# Altium footprint library TO-220.PcbLib: 1 footprints
Each footprint in its own frame and in the unit in brackets; x right, y up, seen from the top. Pads: shape width x height; smd on the part's side, far side on the other; paste and mask are expansions set on the pad; w line width, h text height; cw(c..) or ccw(c..) is an arc to the next point about the centre after c.
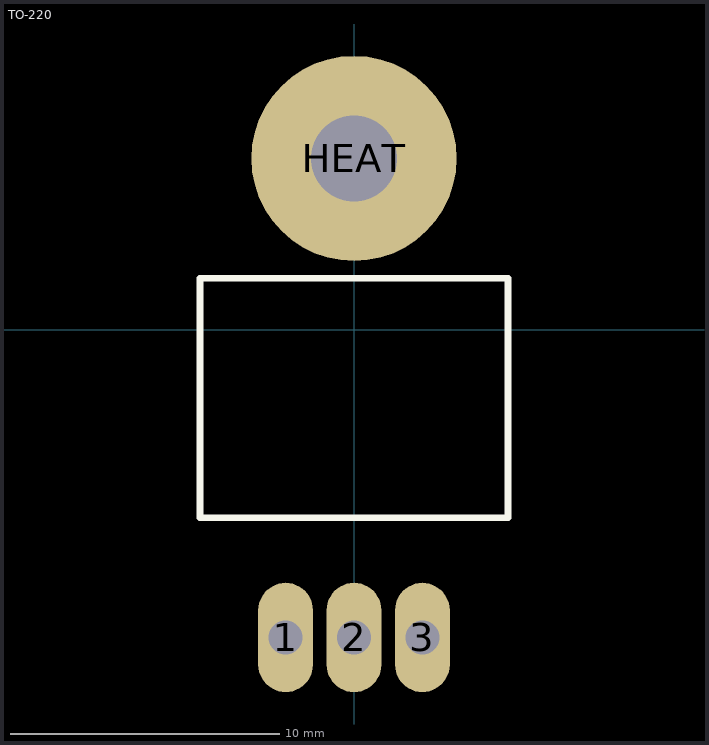
[diagram p0: the footprint, top view; thin cyan lines are the x and y axes]

## TO-220 [mil]
pads (4):
  oval 80x160 hole 50: 1(-100,-450) 2(0,-450) 3(100,-450)
  round 300 hole 126: HEAT(0,250)
Top Overlay:
  lines w10: -225,-275 225,-275 225,75 -225,75 -225,-275